# Altium footprint library IND_TDK.PcbLib: 2 footprints
Each footprint in its own frame and in the unit in brackets; x right, y up, seen from the top. Pads: shape width x height; smd on the part's side, far side on the other; paste and mask are expansions set on the pad; w line width, h text height; cw(c..) or ccw(c..) is an arc to the next point about the centre after c.
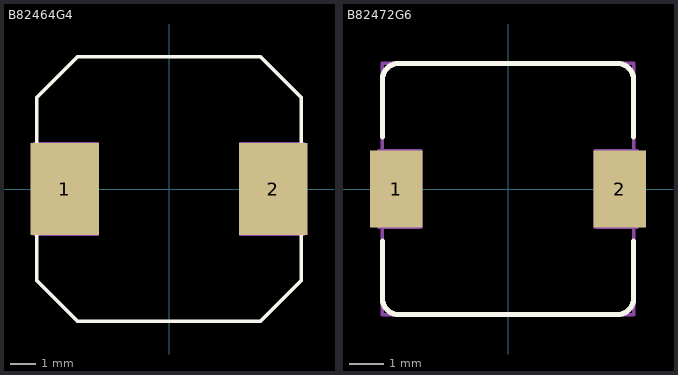
[diagram p0: the footprints below, top view; thin cyan lines are the x and y axes]

## B82464G4 [mm]
pads (2):
  rect 2.7x3.6 smd: 1(-4.1,0) 2(4.1,0)
Top Overlay:
  lines w0.15: -5.2,-3.6 -5.2,3.601 -3.6,5.201 3.6,5.201 5.2,3.601 5.2,-3.599 3.6,-5.199 -3.6,-5.2 -5.2,-3.6
Mechanical 14:
  lines w0.1: -5.3,-1.8 -2.8,-1.8 -2.8,1.8 -5.3,1.8 -5.3,-1.8 ; -5.2,-3.6 -5.2,3.6 -3.6,5.2 3.6,5.2 5.2,3.6 5.2,-3.6 3.6,-5.2 -3.6,-5.2 -5.2,-3.6 ; 2.8,-1.8 5.3,-1.8 5.3,1.8 2.8,1.8 2.8,-1.8
  text ".Designator" at -1.7,-0.45 h1.5
3D body "B82464G4.step": height 4.86, standoff 0.05, extent -5.2,-5.2 5.2,5.2

## B82472G6 [mm]
pads (2):
  rect 1.5x2.2 smd: 1(-3.2,0) 2(3.2,0)
Top Overlay:
  lines w0.15: -3.6,-1.5 -3.6,-3.138 ccw(c-3.138,-3.138) -3.138,-3.6 3.138,-3.6 ccw(c3.138,-3.138) 3.6,-3.138 3.6,-1.5 ; -3.6,1.5 -3.6,3.138 cw(c-3.138,3.138) -3.138,3.6 3.138,3.6 cw(c3.138,3.138) 3.6,3.138 3.6,1.5
Mechanical 14:
  lines w0.1: -3.7,-1.1 -3.7,1.1 -2.5,1.1 -2.5,-1.1 -3.7,-1.1 ; -3.6,-3.6 -3.6,3.6 3.6,3.6 3.6,-3.6 -3.6,-3.6 ; 2.5,-1.1 2.5,1.1 3.7,1.1 3.7,-1.1 2.5,-1.1
  text ".Designator" at -1.7,-0.45 h1
3D body "B82472_G6.step": height 4.05, standoff 0, extent -3.65,-3.65 3.65,3.65